# EAGLE library part FET_P_8PIN (library !GPLIB_ACTIVE)
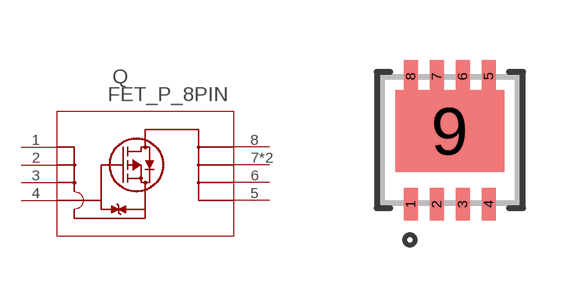
[diagram p76: symbol with the pads of POWERDI3333-8_UX_DIO; footprint POWERDI3333-8_UX_DIO]

Designator prefix Q

## FET_P_8PIN_DMP3013SFV-7  [POWERDI3333-8_UX_DIO]
1  S_2  pas
2  S_3  pas
3  S  pas
4  G  pas
5  D_2  pas
6  D_3  pas
7  D_4  pas
8  D  pas
9  D_4  pas

## Footprint POWERDI3333-8_UX_DIO (pad centres in mm)
smd 0.356 x 0.813: 1 -0.975,-1.6; 2 -0.325,-1.6; 3 0.325,-1.6; 4 0.975,-1.6; 5 0.975,1.6; 6 0.325,1.6; 7 -0.325,1.6; 8 -0.975,1.6
smd 2.72 x 2.05: 9 0,0.23